# Altium schematic symbol library Comms.SchLib: 1 symbol
Pins are listed as number, name and electrical type; pins without a type are passive.

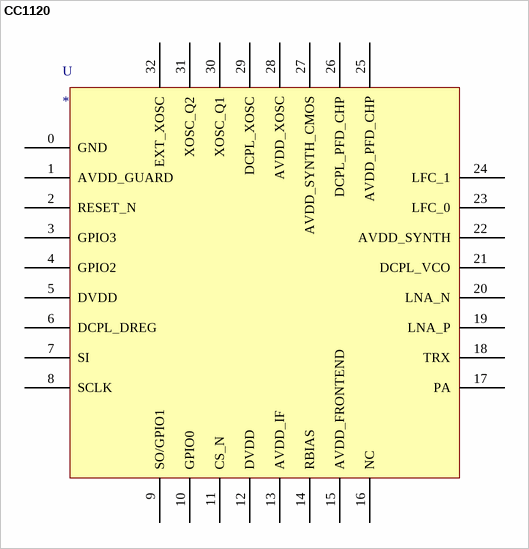
[diagram p0: symbol CC1120]

## CC1120
designator U
Digi-Key Part Number 296-35667-1-ND
footprint TI-RHB (S_PVQFN-N32)
pins: 0 GND, 1 AVDD_GUARD, 2 RESET_N, 3 GPIO3, 4 GPIO2, 5 DVDD, 6 DCPL_DREG, 7 SI, 8 SCLK, 9 SO/GPIO1, 10 GPIO0, 11 CS_N, 12 DVDD, 13 AVDD_IF, 14 RBIAS, 15 AVDD_FRONTEND, 16 NC, 17 PA, 18 TRX, 19 LNA_P, 20 LNA_N, 21 DCPL_VCO, 22 AVDD_SYNTH, 23 LFC_0, 24 LFC_1, 25 AVDD_PFD_CHP, 26 DCPL_PFD_CHP, 27 AVDD_SYNTH_CMOS, 28 AVDD_XOSC, 29 DCPL_XOSC, 30 XOSC_Q1, 31 XOSC_Q2, 32 EXT_XOSC